# Altium footprint library 38312000000.PcbLib: 1 footprints
Each footprint in its own frame and in the unit in brackets; x right, y up, seen from the top. Pads: shape width x height; smd on the part's side, far side on the other; paste and mask are expansions set on the pad; w line width, h text height; cw(c..) or ccw(c..) is an arc to the next point about the centre after c.
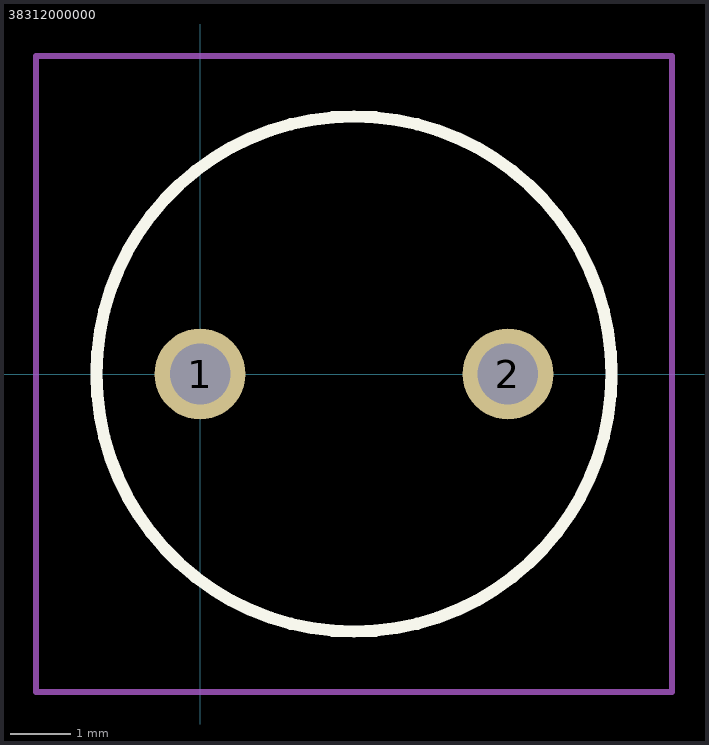
[diagram p0: the footprint, top view; thin cyan lines are the x and y axes]

## 38312000000 [mm]
pads (2):
  round 1.5 hole 1: 1(0,0) 2(5.08,0)
Top Overlay:
  lines w0.2: -1.71,0 -1.71,0 ; -1.71,0 ccw(c2.54,0) 6.79,0 ; -1.71,0 cw(c2.54,0) 6.79,0 ; 6.79,0 6.79,0
Mechanical 15:
  lines w0.1: -1.71,0 -1.71,0 ; -1.71,0 ccw(c2.54,0) 6.79,0 ; -1.71,0 cw(c2.54,0) 6.79,0 ; 6.79,0 6.79,0
Mechanical 20:
  lines w0.1: -2.71,-5.25 7.79,-5.25 7.79,5.25 -2.71,5.25 -2.71,-5.25
3D body "38312000000.stp": height 5.8, standoff -4.65, extent -10,-3.376 10,3.376